# Altium footprint library ICs.PcbLib: 34 footprints (part 1 of 3)
Each footprint in its own frame and in the unit in brackets; x right, y up, seen from the top. Pads: shape width x height; smd on the part's side, far side on the other; paste and mask are expansions set on the pad; w line width, h text height; cw(c..) or ccw(c..) is an arc to the next point about the centre after c.
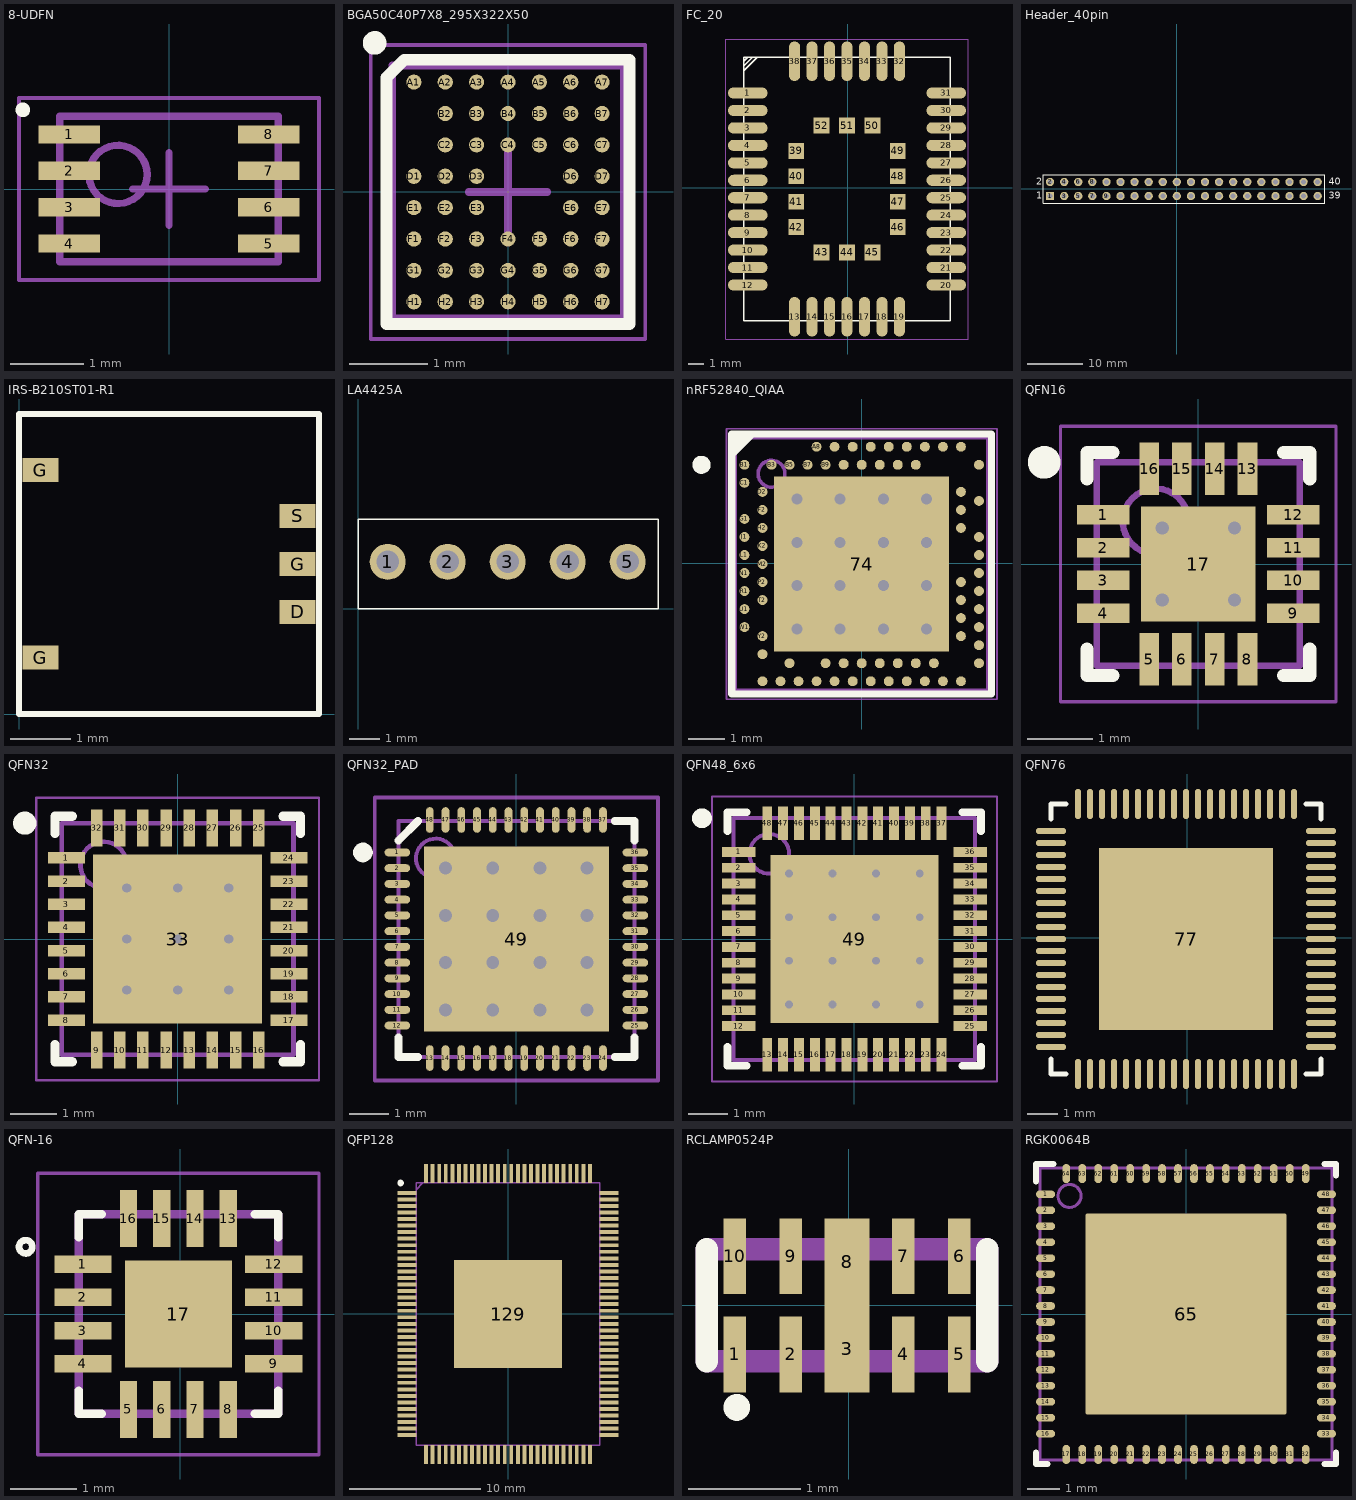
[diagram p0: the footprints below, top view; thin cyan lines are the x and y axes]

## 8-UDFN [mm] "8-UDFN, 8-Leads, Body 1.95x2.95mm, Pitch 0.50mm, IPC Medium Density"
height 0.6
pads (8):
  rect 0.85x0.25 smd: 1(-1.37,0.75) 2(-1.37,0.25) 3(-1.37,-0.25) 4(-1.37,-0.75) 5(1.37,-0.75) 6(1.37,-0.25) 7(1.37,0.25) 8(1.37,0.75)
Top Overlay:
  circle w0.1: c-2.007,1.087 r0.05
Mechanical 13:
  circle w0.1: c-0.7,0.2 r0.4
  lines w0.1: -1.5,-1 -1.5,1 1.5,1 1.5,-1 -1.5,-1
Mechanical 15:
  lines w0.05: -2.06,-1.25 -2.06,1.25 2.06,1.25 2.06,-1.25 -2.06,-1.25
  lines w0.1: -0.5,0 0.5,0 ; 0,-0.5 0,0.5
3D body "8-UDFN.step": height 0.6, standoff 0.1, extent -1.5,-1 1.5,1

## BGA50C40P7X8_295X322X50 [mm]
pads (50):
  round 0.193 smd: A1(-1.2,1.4) A2(-0.8,1.4) A3(-0.4,1.4) A4(0,1.4) A5(0.4,1.4) A6(0.8,1.4) A7(1.2,1.4) B2(-0.8,1) B3(-0.4,1) B4(0,1) B5(0.4,1) B6(0.8,1) B7(1.2,1) C2(-0.8,0.6) C3(-0.4,0.6) C4(0,0.6) C5(0.4,0.6) C6(0.8,0.6) C7(1.2,0.6) D1(-1.2,0.2) D2(-0.8,0.2) D3(-0.4,0.2) D6(0.8,0.2) D7(1.2,0.2) E1(-1.2,-0.2) E2(-0.8,-0.2) E3(-0.4,-0.2) E6(0.8,-0.2) E7(1.2,-0.2) F1(-1.2,-0.6) F2(-0.8,-0.6) F3(-0.4,-0.6) F4(0,-0.6) F5(0.4,-0.6) F6(0.8,-0.6) F7(1.2,-0.6) G1(-1.2,-1) G2(-0.8,-1) G3(-0.4,-1) G4(0,-1) G5(0.4,-1) G6(0.8,-1) G7(1.2,-1) H1(-1.2,-1.4) H2(-0.8,-1.4) H3(-0.4,-1.4) H4(0,-1.4) H5(0.4,-1.4) H6(0.8,-1.4) H7(1.2,-1.4)
Top Overlay:
  circle w0.2: c-1.7,1.9 r0.05
  lines w0.15: -1.55,-1.685 1.55,-1.685 1.55,1.685 -1.323,1.685 -1.55,1.458 -1.55,-1.685
Mechanical 13:
  lines w0.1: -1.475,-1.61 -1.475,1.61 1.475,1.61 1.475,-1.61 -1.475,-1.61
Mechanical 15:
  lines w0.05: -1.75,-1.875 -1.75,1.875 1.75,1.875 1.75,-1.875 -1.75,-1.875
  lines w0.1: -0.5,0 0.5,0 ; 0,-0.5 0,0.5
3D body: height 0.5, standoff 0, extent -1.475,-1.61 1.475,1.61
3D body: height 0.51, standoff 0.5, extent -1.2,1.135 -1,1.335

## FC_20 [mm]
pads (52):
  oval 2.5x0.7 smd: 1(-6.3,5.987) 2(-6.3,4.887) 3(-6.3,3.787) 4(-6.3,2.687) 5(-6.3,1.587) 6(-6.3,0.487) 7(-6.3,-0.613) 8(-6.3,-1.713) 9(-6.3,-2.813) 10(-6.3,-3.913) 11(-6.3,-5.013) 12(-6.3,-6.113) 20(6.2,-6.113) 21(6.2,-5.013) 22(6.2,-3.913) 23(6.2,-2.813) 24(6.2,-1.713) 25(6.2,-0.613) 26(6.2,0.487) 27(6.2,1.587) 28(6.2,2.687) 29(6.2,3.787) 30(6.2,4.887) 31(6.2,5.987)
  oval 0.7x2.5 smd: 13(-3.35,-8.113) 14(-2.25,-8.113) 15(-1.15,-8.113) 16(-0.05,-8.113) 17(1.05,-8.113) 18(2.15,-8.113) 19(3.25,-8.113) 32(3.25,7.987) 33(2.15,7.987) 34(1.05,7.987) 35(-0.05,7.987) 36(-1.15,7.987) 37(-2.25,7.987) 38(-3.35,7.987)
  rect 1x1 smd: 39(-3.25,2.337) 40(-3.25,0.737) 41(-3.25,-0.863) 42(-3.25,-2.463) 43(-1.65,-4.063) 44(-0.05,-4.063) 45(1.55,-4.063) 46(3.15,-2.463) 47(3.15,-0.863) 48(3.15,0.737) 49(3.15,2.337) 50(1.55,3.937) 51(-0.05,3.937) 52(-1.65,3.937)
Top Overlay:
  lines w0.1: -6.55,-8.363 6.45,-8.363 6.45,8.237 -6.55,8.237 -6.55,-8.363
  lines w0.102: -6.55,7.387 -5.7,8.237 ; -6.55,7.687 -6,8.237 ; -6.55,7.987 -6.3,8.237
Mechanical 1:
  lines w0.01: -7.7,-9.513 7.6,-9.513 7.6,9.387 -7.7,9.387 -7.7,-9.513
3D body: height 0.25, standoff 0, extent 0.406,0.076 0.406,0.076
3D body: height 0.25, standoff 0, extent 10.389,4.902 10.389,4.902
3D body "fc20_3d_161018_asm.stp": height 2.2, standoff 0, extent -6.551,-8.325 6.449,8.275

## Header_40pin [mm]
pads (40):
  rect 1.5x1.5 hole 0.9: 1(-22.809,-1.346)
  round 1.5 hole 0.9: 2(-22.809,1.194) 3(-20.269,-1.346) 4(-20.269,1.194) 5(-17.729,-1.346) 6(-17.729,1.194) 7(-15.189,-1.346) 8(-15.189,1.194) 9(-12.649,-1.346) 10(-12.649,1.194) 11(-10.109,-1.346) 12(-10.109,1.194) 13(-7.569,-1.346) 14(-7.569,1.194) 15(-5.029,-1.346) 16(-5.029,1.194) 17(-2.489,-1.346) 18(-2.489,1.194) 19(0.051,-1.346) 20(0.051,1.194) 21(2.591,-1.346) 22(2.591,1.194) 23(5.131,-1.346) 24(5.131,1.194) 25(7.671,-1.346) 26(7.671,1.194) 27(10.211,-1.346) 28(10.211,1.194) 29(12.751,-1.346) 30(12.751,1.194) 31(15.291,-1.346) 32(15.291,1.194) 33(17.831,-1.346) 34(17.831,1.194) 35(20.371,-1.346) 36(20.371,1.194) 37(22.911,-1.346) 38(22.911,1.194) 39(25.451,-1.346) 40(25.451,1.194)
Top Overlay:
  lines w0.2: -24.079,-2.616 26.721,-2.616 26.721,2.464 -24.079,2.464 -24.079,-2.616
  text "1" at -25.349,-1.854 h1.27
  text "2" at -25.349,0.686 h1.27
  text "40" at 27.483,0.686 h1.27
  text "39" at 27.483,-1.854 h1.27

## IRS-B210ST01-R1 [mm]
pads (5):
  rect 0.6x0.4 smd: D(4.644,1.702) G(0.356,0.94) G(0.356,4.064) G(4.644,2.5) S(4.644,3.302)
Top Overlay:
  lines w0.1: 0,0 5,0 5,5 0,5 0,0

## LA4425A [mil]
pads (5):
  round 47.24 hole 30: 1(39,62) 2(117.74,62) 3(196.48,62) 4(275.22,62) 5(353.96,62)
Top Overlay:
  lines w1.97: 0,0 393.7,0 393.7,118.11 0,118.11 0,0

## nRF52840_QIAA [mm]
pads (74):
  rect 4.85x4.85 smd mask+0.05: 74(-0.007,-0.024)
  round 0.275 smd paste+0.012 mask+0.05: A8(-1.257,3.226) A10(-0.757,3.226) A12(-0.257,3.226) A14(0.243,3.226) A16(0.743,3.226) A18(1.243,3.226) A20(1.743,3.226) A22(2.243,3.226) A23(2.743,3.226) AA24(3.243,-2.274) AB2(-2.757,-2.524) AC5(-2.007,-2.774) AC9(-1.007,-2.774) AC11(-0.507,-2.774) AC13(-0.007,-2.774) AC15(0.493,-2.774) AC17(0.993,-2.774) AC19(1.493,-2.774) AC21(1.993,-2.774) AC24(3.243,-2.774) AD2(-2.757,-3.274) AD4(-2.257,-3.274) AD6(-1.757,-3.274) AD8(-1.257,-3.274) AD10(-0.757,-3.274) AD12(-0.257,-3.274) AD14(0.243,-3.274) AD16(0.743,-3.274) AD18(1.243,-3.274) AD20(1.743,-3.274) AD22(2.243,-3.274) AD23(2.743,-3.274) B1(-3.257,2.726) B3(-2.507,2.726) B5(-2.007,2.726) B7(-1.507,2.726) B9(-1.007,2.726) B11(-0.507,2.726) B13(-0.007,2.726) B15(0.493,2.726) B17(0.993,2.726) B19(1.493,2.726) B24(3.243,2.726) C1(-3.257,2.226) D2(-2.757,1.976) D23(2.743,1.976) E24(3.243,1.726) F2(-2.757,1.476) F23(2.743,1.476) G1(-3.257,1.226) H2(-2.757,0.976) H23(2.743,0.976) J1(-3.257,0.726) J24(3.243,0.726) K2(-2.757,0.476) L1(-3.257,0.226) L24(3.243,0.226) M2(-2.757,-0.024) N1(-3.257,-0.274) N24(3.243,-0.274) P2(-2.757,-0.524) P23(2.743,-0.524) R1(-3.257,-0.774) R24(3.243,-0.774) T2(-2.757,-1.024) T23(2.743,-1.024) U1(-3.257,-1.274) U24(3.243,-1.274) V23(2.743,-1.524) W1(-3.257,-1.774) W24(3.243,-1.774) Y2(-2.757,-2.024) Y23(2.743,-2.024)
via 1.793,-1.824 diameter 0.61 hole 0.305
via 0.593,-1.824 diameter 0.61 hole 0.305
via -0.607,-1.824 diameter 0.61 hole 0.305
via -1.807,-1.824 diameter 0.61 hole 0.305
via 1.793,-0.624 diameter 0.61 hole 0.305
via 0.593,-0.624 diameter 0.61 hole 0.305
via -0.607,-0.624 diameter 0.61 hole 0.305
via -1.807,-0.624 diameter 0.61 hole 0.305
via 1.793,0.576 diameter 0.61 hole 0.305
via 0.593,0.576 diameter 0.61 hole 0.305
via -0.607,0.576 diameter 0.61 hole 0.305
via -1.807,0.576 diameter 0.61 hole 0.305
via 1.793,1.776 diameter 0.61 hole 0.305
via 0.593,1.776 diameter 0.61 hole 0.305
via -0.607,1.776 diameter 0.61 hole 0.305
via -1.807,1.776 diameter 0.61 hole 0.305
Top Overlay:
  circle w0.25: c-4.447,2.726 r0.125
  region: -3.007,3.476 -3.507,2.976 -3.507,3.476
  lines w0.2: -3.607,-3.624 3.593,-3.624 3.593,3.576 -3.607,3.576 -3.607,-3.624
Mechanical 7:
  circle w0.1: c-2.507,2.476 r0.373
  lines w0.1: -3.507,-3.524 -3.507,3.476 3.493,3.476 3.493,-3.524 -3.507,-3.524
  text ".Designator" at -0.185,-0.177 h0.3
Mechanical 15:
  lines w0.05: -3.757,-3.774 3.743,-3.774 3.743,3.726 -3.757,3.726 -3.757,-3.774
  lines w0.1: -0.507,-0.024 0.493,-0.024 ; -0.007,-0.524 -0.007,0.476
3D body "LGA88C25P25X25_700X700X85.step": height 0.85, standoff 0, extent -3.557,-3.574 3.543,3.526

## QFN16 [mm]
height 0.75
pads (17):
  rect 0.8x0.3 smd: 1(-1.45,0.75) 2(-1.45,0.25) 3(-1.45,-0.25) 4(-1.45,-0.75) 9(1.45,-0.75) 10(1.45,-0.25) 11(1.45,0.25) 12(1.45,0.75)
  rect 0.3x0.8 smd: 5(-0.75,-1.45) 6(-0.25,-1.45) 7(0.25,-1.45) 8(0.75,-1.45) 13(0.75,1.45) 14(0.25,1.45) 15(-0.25,1.45) 16(-0.75,1.45)
  rect 1.75x1.75 smd: 17(0,0)
via 0.55,-0.55 diameter 0.5 hole 0.2
via -0.55,-0.55 diameter 0.5 hole 0.2
via 0.55,0.55 diameter 0.5 hole 0.2
via -0.55,0.55 diameter 0.5 hole 0.2
Top Overlay:
  circle w0.25: c-2.35,1.55 r0.125
  lines w0.2: -1.7,-1.3 -1.7,-1.7 -1.3,-1.7 ; -1.7,1.3 -1.7,1.7 -1.3,1.7 ; 1.3,-1.7 1.7,-1.7 1.7,-1.3 ; 1.3,1.7 1.7,1.7 1.7,1.3
Mechanical 13:
  circle w0.1: c-0.65,0.65 r0.5
  lines w0.1: -1.55,-1.55 1.55,-1.55 1.55,1.55 -1.55,1.55 -1.55,-1.55
Mechanical 15:
  lines w0.05: -2.1,-2.1 2.1,-2.1 2.1,2.1 -2.1,2.1 -2.1,-2.1
  lines w0.1: -0.5,0 0.5,0 ; 0,-0.5 0,0.5
3D body "QFN16.step": height 0.75, standoff 0, extent -1.56,-1.56 1.56,1.56

## QFN32 [mm]
height 0.75
pads (33):
  rect 0.8x0.25 smd: 1(-2.4,1.75) 2(-2.4,1.25) 3(-2.4,0.75) 4(-2.4,0.25) 5(-2.4,-0.25) 6(-2.4,-0.75) 7(-2.4,-1.25) 8(-2.4,-1.75) 17(2.4,-1.75) 18(2.4,-1.25) 19(2.4,-0.75) 20(2.4,-0.25) 21(2.4,0.25) 22(2.4,0.75) 23(2.4,1.25) 24(2.4,1.75)
  rect 0.25x0.8 smd: 9(-1.75,-2.4) 10(-1.25,-2.4) 11(-0.75,-2.4) 12(-0.25,-2.4) 13(0.25,-2.4) 14(0.75,-2.4) 15(1.25,-2.4) 16(1.75,-2.4) 25(1.75,2.4) 26(1.25,2.4) 27(0.75,2.4) 28(0.25,2.4) 29(-0.25,2.4) 30(-0.75,2.4) 31(-1.25,2.4) 32(-1.75,2.4)
  rect 3.65x3.65 smd: 33(0,0)
via -1.1,1.1 diameter 0.5 hole 0.2
via 0,1.1 diameter 0.5 hole 0.2
via 1.1,1.1 diameter 0.5 hole 0.2
via -1.1,0 diameter 0.5 hole 0.2
via 0,0 diameter 0.5 hole 0.2
via 1.1,0 diameter 0.5 hole 0.2
via -1.1,-1.1 diameter 0.5 hole 0.2
via 0,-1.1 diameter 0.5 hole 0.2
via 1.1,-1.1 diameter 0.5 hole 0.2
Top Overlay:
  circle w0.25: c-3.3,2.5 r0.125
  lines w0.2: -2.65,-2.275 -2.65,-2.65 -2.275,-2.65 ; -2.65,2.275 -2.65,2.65 -2.275,2.65 ; 2.275,-2.65 2.65,-2.65 2.65,-2.275 ; 2.275,2.65 2.65,2.65 2.65,2.275
Mechanical 13:
  circle w0.1: c-1.6,1.6 r0.5
  lines w0.1: -2.5,-2.5 -2.5,2.5 2.5,2.5 2.5,-2.5 -2.5,-2.5
Mechanical 15:
  lines w0.05: -3.05,-3.05 -3.05,3.05 3.05,3.05 3.05,-3.05 -3.05,-3.05
  lines w0.1: -0.5,0 0.5,0 ; 0,-0.5 0,0.5
3D body "QFN32.step": height 0.75, standoff 0, extent -2.51,-2.51 2.51,2.51

## QFN32_PAD [mm]
pads (49):
  oval 0.65x0.2 smd: 1(-3.025,2.2) 2(-3.025,1.8) 3(-3.025,1.4) 4(-3.025,1) 5(-3.025,0.6) 6(-3.025,0.2) 7(-3.025,-0.2) 8(-3.025,-0.6) 9(-3.025,-1) 10(-3.025,-1.4) 11(-3.025,-1.8) 12(-3.025,-2.2) 25(3.025,-2.2) 26(3.025,-1.8) 27(3.025,-1.4) 28(3.025,-1) 29(3.025,-0.6) 30(3.025,-0.2) 31(3.025,0.2) 32(3.025,0.6) 33(3.025,1) 34(3.025,1.4) 35(3.025,1.8) 36(3.025,2.2)
  oval 0.2x0.65 smd: 13(-2.2,-3.025) 14(-1.8,-3.025) 15(-1.4,-3.025) 16(-1,-3.025) 17(-0.6,-3.025) 18(-0.2,-3.025) 19(0.2,-3.025) 20(0.6,-3.025) 21(1,-3.025) 22(1.4,-3.025) 23(1.8,-3.025) 24(2.2,-3.025) 37(2.2,3.025) 38(1.8,3.025) 39(1.4,3.025) 40(1,3.025) 41(0.6,3.025) 42(0.2,3.025) 43(-0.2,3.025) 44(-0.6,3.025) 45(-1,3.025) 46(-1.4,3.025) 47(-1.8,3.025) 48(-2.2,3.025)
  rect 4.7x4.7 smd: 49(0,0)
via 1.8,-1.8 diameter 0.66 hole 0.33
via 0.6,-1.8 diameter 0.66 hole 0.33
via -0.6,-1.8 diameter 0.66 hole 0.33
via -1.8,-1.8 diameter 0.66 hole 0.33
via 1.8,-0.6 diameter 0.66 hole 0.33
via 0.6,-0.6 diameter 0.66 hole 0.33
via -0.6,-0.6 diameter 0.66 hole 0.33
via -1.8,-0.6 diameter 0.66 hole 0.33
via 1.8,0.6 diameter 0.66 hole 0.33
via 0.6,0.6 diameter 0.66 hole 0.33
via -0.6,0.6 diameter 0.66 hole 0.33
via -1.8,0.6 diameter 0.66 hole 0.33
via 1.8,1.8 diameter 0.66 hole 0.33
via 0.6,1.8 diameter 0.66 hole 0.33
via -0.6,1.8 diameter 0.66 hole 0.33
via -1.8,1.8 diameter 0.66 hole 0.33
Top Overlay:
  circle w0.25: c-3.9,2.2 r0.125
  lines w0.2: -3,-2.5 -3,-3 -2.5,-3 ; -3,2.5 -2.5,3 ; 2.5,-3 3,-3 3,-2.5 ; 2.5,3 3,3 3,2.5
Mechanical 13:
  circle w0.1: c-2.05,2.05 r0.5
  lines w0.1: -3,-3 3,-3 3,3 -3,3 -3,-3
Mechanical 15:
  lines w0.1: -0.5,0 0.5,0 ; 0,-0.5 0,0.5 ; -3.6,-3.6 3.6,-3.6 3.6,3.6 -3.6,3.6 -3.6,-3.6
3D body "User Library-QFN48.step": height 0.86, standoff -0.01, extent -3.02,-3.02 3.02,3.02

## QFN48_6x6 [mm] "QFN, 48-Leads, Body 6.05x6.05mm, Pitch 0.40mm, Thermal Pad 4.25x4.25mm, IPC Medium Density"
height 0.8
pads (49):
  rect 0.85x0.25 smd: 1(-2.925,2.2) 2(-2.925,1.8) 3(-2.925,1.4) 4(-2.925,1) 5(-2.925,0.6) 6(-2.925,0.2) 7(-2.925,-0.2) 8(-2.925,-0.6) 9(-2.925,-1) 10(-2.925,-1.4) 11(-2.925,-1.8) 12(-2.925,-2.2) 25(2.925,-2.2) 26(2.925,-1.8) 27(2.925,-1.4) 28(2.925,-1) 29(2.925,-0.6) 30(2.925,-0.2) 31(2.925,0.2) 32(2.925,0.6) 33(2.925,1) 34(2.925,1.4) 35(2.925,1.8) 36(2.925,2.2)
  rect 0.25x0.85 smd: 13(-2.2,-2.925) 14(-1.8,-2.925) 15(-1.4,-2.925) 16(-1,-2.925) 17(-0.6,-2.925) 18(-0.2,-2.925) 19(0.2,-2.925) 20(0.6,-2.925) 21(1,-2.925) 22(1.4,-2.925) 23(1.8,-2.925) 24(2.2,-2.925) 37(2.2,2.925) 38(1.8,2.925) 39(1.4,2.925) 40(1,2.925) 41(0.6,2.925) 42(0.2,2.925) 43(-0.2,2.925) 44(-0.6,2.925) 45(-1,2.925) 46(-1.4,2.925) 47(-1.8,2.925) 48(-2.2,2.925)
  rect 4.25x4.25 smd: 49(0,0)
via -1.65,1.65 diameter 0.5 hole 0.2
via -0.55,1.65 diameter 0.5 hole 0.2
via 0.55,1.65 diameter 0.5 hole 0.2
via 1.65,1.65 diameter 0.5 hole 0.2
via -1.65,0.55 diameter 0.5 hole 0.2
via -0.55,0.55 diameter 0.5 hole 0.2
via 0.55,0.55 diameter 0.5 hole 0.2
via 1.65,0.55 diameter 0.5 hole 0.2
via -1.65,-0.55 diameter 0.5 hole 0.2
via -0.55,-0.55 diameter 0.5 hole 0.2
via 0.55,-0.55 diameter 0.5 hole 0.2
via 1.65,-0.55 diameter 0.5 hole 0.2
via -1.65,-1.65 diameter 0.5 hole 0.2
via -0.55,-1.65 diameter 0.5 hole 0.2
via 0.55,-1.65 diameter 0.5 hole 0.2
via 1.65,-1.65 diameter 0.5 hole 0.2
Top Overlay:
  circle w0.25: c-3.85,3.05 r0.125
  lines w0.2: -3.2,-2.725 -3.2,-3.2 -2.725,-3.2 ; -3.2,2.725 -3.2,3.2 -2.725,3.2 ; 2.725,-3.2 3.2,-3.2 3.2,-2.725 ; 2.725,3.2 3.2,3.2 3.2,2.725
Mechanical 13:
  circle w0.1: c-2.15,2.15 r0.5
  lines w0.1: -3.05,-3.05 -3.05,3.05 3.05,3.05 3.05,-3.05 -3.05,-3.05
Mechanical 15:
  lines w0.05: -3.6,-3.6 -3.6,3.6 3.6,3.6 3.6,-3.6 -3.6,-3.6
  lines w0.1: -0.5,0 0.5,0 ; 0,-0.5 0,0.5
3D body "QFN48_6x6.step": height 0.8, standoff 0, extent -3.06,-3.06 3.06,3.06

## QFN76 [mm]
pads (77):
  oval 1x0.2 smd: 1(-4.535,3.558) 2(-4.535,3.158) 3(-4.535,2.758) 4(-4.535,2.358) 5(-4.535,1.958) 6(-4.535,1.558) 7(-4.535,1.158) 8(-4.535,0.758) 9(-4.535,0.358) 10(-4.535,-0.042) 11(-4.535,-0.442) 12(-4.535,-0.842) 13(-4.535,-1.242) 14(-4.535,-1.642) 15(-4.535,-2.042) 16(-4.535,-2.442) 17(-4.535,-2.842) 18(-4.535,-3.242) 19(-4.535,-3.642) 39(4.465,-3.642) 40(4.465,-3.242) 41(4.465,-2.842) 42(4.465,-2.442) 43(4.465,-2.042) 44(4.465,-1.642) 45(4.465,-1.242) 46(4.465,-0.842) 47(4.465,-0.442) 48(4.465,-0.042) 49(4.465,0.358) 50(4.465,0.758) 51(4.465,1.158) 52(4.465,1.558) 53(4.465,1.958) 54(4.465,2.358) 55(4.465,2.758) 56(4.465,3.158) 57(4.465,3.558)
  oval 0.2x1 smd: 20(-3.635,-4.542) 21(-3.235,-4.542) 22(-2.835,-4.542) 23(-2.435,-4.542) 24(-2.035,-4.542) 25(-1.635,-4.542) 26(-1.235,-4.542) 27(-0.835,-4.542) 28(-0.435,-4.542) 29(-0.035,-4.542) 30(0.365,-4.542) 31(0.765,-4.542) 32(1.165,-4.542) 33(1.565,-4.542) 34(1.965,-4.542) 35(2.365,-4.542) 36(2.765,-4.542) 37(3.165,-4.542) 38(3.565,-4.542) 58(3.565,4.458) 59(3.165,4.458) 60(2.765,4.458) 61(2.365,4.458) 62(1.965,4.458) 63(1.565,4.458) 64(1.165,4.458) 65(0.765,4.458) 66(0.365,4.458) 67(-0.035,4.458) 68(-0.435,4.458) 69(-0.835,4.458) 70(-1.235,4.458) 71(-1.635,4.458) 72(-2.035,4.458) 73(-2.435,4.458) 74(-2.835,4.458) 75(-3.235,4.458) 76(-3.635,4.458)
  rect 5.81x6.06 smd: 77(-0.035,-0.042)
Top Overlay:
  lines w0.15: -4.535,-4.042 -4.535,-4.542 -4.035,-4.542 ; -4.535,3.958 -4.535,4.458 -4.035,4.458 ; 3.965,-4.542 4.465,-4.542 4.465,-4.042 ; 3.965,4.458 4.465,4.458 4.465,3.958

## QFN-16 [mm]
pads (17):
  rect 0.86x0.26 smd: 1(-1.46,0.75) 2(-1.46,0.25) 3(-1.46,-0.25) 4(-1.46,-0.75) 9(1.41,-0.75) 10(1.41,-0.25) 11(1.41,0.25) 12(1.41,0.75)
  rect 0.26x0.86 smd: 5(-0.775,-1.435) 6(-0.275,-1.435) 7(0.225,-1.435) 8(0.725,-1.435) 13(0.725,1.435) 14(0.225,1.435) 15(-0.275,1.435) 16(-0.775,1.435)
  rect 1.61x1.61 smd: 17(-0.025,0)
Top Overlay:
  circle w0.1: c-2.32,1.01 r0.1
  lines w0.127: -1.525,-1.15 -1.525,-1.5 -1.175,-1.5 ; -1.525,1.15 -1.525,1.5 -1.175,1.5 ; 1.125,-1.5 1.475,-1.5 1.475,-1.15 ; 1.125,1.5 1.475,1.5 1.475,1.15
Top Paste:
  region: -0.434,0.403 0.378,0.403 0.378,-0.409 -0.434,-0.409
Mechanical 1:
  lines w0.05: -2.14,-2.115 2.09,-2.115 2.09,2.115 -2.14,2.115 -2.14,-2.115
  lines w0.127: -1.525,-1.5 1.475,-1.5 1.475,1.5 -1.525,1.5 -1.525,-1.5

## QFP128 [mm]
pads (129):
  rect 1.45x0.3 smd: 1(-7.75,9.225) 2(-7.75,8.725) 3(-7.75,8.225) 4(-7.75,7.725) 5(-7.75,7.225) 6(-7.75,6.725) 7(-7.75,6.225) 8(-7.75,5.725) 9(-7.75,5.225) 10(-7.75,4.725) 11(-7.75,4.225) 12(-7.75,3.725) 13(-7.75,3.225) 14(-7.75,2.725) 15(-7.75,2.225) 16(-7.75,1.725) 17(-7.75,1.225) 18(-7.75,0.725) 19(-7.75,0.225) 20(-7.75,-0.275) 21(-7.75,-0.775) 22(-7.75,-1.275) 23(-7.75,-1.775) 24(-7.75,-2.275) 25(-7.75,-2.775) 26(-7.75,-3.275) 27(-7.75,-3.775) 28(-7.75,-4.275) 29(-7.75,-4.775) 30(-7.75,-5.275) 31(-7.75,-5.775) 32(-7.75,-6.275) 33(-7.75,-6.775) 34(-7.75,-7.275) 35(-7.75,-7.775) 36(-7.75,-8.275) 37(-7.75,-8.775) 38(-7.75,-9.275) 65(7.7,-9.275) 66(7.7,-8.775) 67(7.7,-8.275) 68(7.7,-7.775) 69(7.7,-7.275) 70(7.7,-6.775) 71(7.7,-6.275) 72(7.7,-5.775) 73(7.7,-5.275) 74(7.7,-4.775) 75(7.7,-4.275) 76(7.7,-3.775) 77(7.7,-3.275) 78(7.7,-2.775) 79(7.7,-2.275) 80(7.7,-1.775) 81(7.7,-1.275) 82(7.7,-0.775) 83(7.7,-0.275) 84(7.7,0.225) 85(7.7,0.725) 86(7.7,1.225) 87(7.7,1.725) 88(7.7,2.225) 89(7.7,2.725) 90(7.7,3.225) 91(7.7,3.725) 92(7.7,4.225) 93(7.7,4.725) 94(7.7,5.225) 95(7.7,5.725) 96(7.7,6.225) 97(7.7,6.725) 98(7.7,7.225) 99(7.7,7.725) 100(7.7,8.225) 101(7.7,8.725) 102(7.7,9.225)
  rect 0.3x1.45 smd: 39(-6.275,-10.75) 40(-5.775,-10.75) 41(-5.275,-10.75) 42(-4.775,-10.75) 43(-4.275,-10.75) 44(-3.775,-10.75) 45(-3.275,-10.75) 46(-2.775,-10.75) 47(-2.275,-10.75) 48(-1.775,-10.75) 49(-1.275,-10.75) 50(-0.775,-10.75) 51(-0.275,-10.75) 52(0.225,-10.75) 53(0.725,-10.75) 54(1.225,-10.75) 55(1.725,-10.75) 56(2.225,-10.75) 57(2.725,-10.75) 58(3.225,-10.75) 59(3.725,-10.75) 60(4.225,-10.75) 61(4.725,-10.75) 62(5.225,-10.75) 63(5.725,-10.75) 64(6.225,-10.75) 103(6.225,10.7) 104(5.725,10.7) 105(5.225,10.7) 106(4.725,10.7) 107(4.225,10.7) 108(3.725,10.7) 109(3.225,10.7) 110(2.725,10.7) 111(2.225,10.7) 112(1.725,10.7) 113(1.225,10.7) 114(0.725,10.7) 115(0.225,10.7) 116(-0.275,10.7) 117(-0.775,10.7) 118(-1.275,10.7) 119(-1.775,10.7) 120(-2.275,10.7) 121(-2.775,10.7) 122(-3.275,10.7) 123(-3.775,10.7) 124(-4.275,10.7) 125(-4.775,10.7) 126(-5.275,10.7) 127(-5.775,10.7) 128(-6.275,10.7)
  rrect0% 8.26x8.26 smd: 129(-0.025,-0.025)
Top Overlay:
  circle w0.25: c-8.225,9.975 r0.125
Mechanical 15:
  lines w0.1: -7.025,9.475 -6.525,9.975 ; -7.025,-10.025 6.975,-10.025 6.975,9.975 -7.025,9.975 -7.025,-10.025

## RCLAMP0524P [mm]
pads (10):
  rect 0.2x0.675 smd: 1(-1.017,-0.437) 2(-0.517,-0.437) 4(0.483,-0.437) 5(0.983,-0.437) 6(0.983,0.437) 7(0.483,0.437) 9(-0.517,0.437) 10(-1.017,0.437)
  rect 0.4x0.775 smd: 3(-0.017,-0.387) 8(-0.017,0.387)
Top Overlay:
  circle w0.2: c-1,-0.91 r0.019
  lines w0.2: -1.267,-0.5 -1.267,0.5 ; 1.233,-0.5 1.233,0.5
Mechanical 15:
  lines w0.2: -1.267,-0.5 -1.267,0.5 1.233,0.5 1.233,-0.5 -1.267,-0.5

## RGK0064B [mm]
pads (65):
  rrect100% 0.6x0.24 smd: 1(-4.4,3.75) 2(-4.4,3.25) 3(-4.4,2.75) 4(-4.4,2.25) 5(-4.4,1.75) 6(-4.4,1.25) 7(-4.4,0.75) 8(-4.4,0.25) 9(-4.4,-0.25) 10(-4.4,-0.75) 11(-4.4,-1.25) 12(-4.4,-1.75) 13(-4.4,-2.25) 14(-4.4,-2.75) 15(-4.4,-3.25) 16(-4.4,-3.75) 33(4.4,-3.75) 34(4.4,-3.25) 35(4.4,-2.75) 36(4.4,-2.25) 37(4.4,-1.75) 38(4.4,-1.25) 39(4.4,-0.75) 40(4.4,-0.25) 41(4.4,0.25) 42(4.4,0.75) 43(4.4,1.25) 44(4.4,1.75) 45(4.4,2.25) 46(4.4,2.75) 47(4.4,3.25) 48(4.4,3.75)
  rrect100% 0.24x0.6 smd: 17(-3.75,-4.4) 18(-3.25,-4.4) 19(-2.75,-4.4) 20(-2.25,-4.4) 21(-1.75,-4.4) 22(-1.25,-4.4) 23(-0.75,-4.4) 24(-0.25,-4.4) 25(0.25,-4.4) 26(0.75,-4.4) 27(1.25,-4.4) 28(1.75,-4.4) 29(2.25,-4.4) 30(2.75,-4.4) 31(3.25,-4.4) 32(3.75,-4.4) 49(3.75,4.4) 50(3.25,4.4) 51(2.75,4.4) 52(2.25,4.4) 53(1.75,4.4) 54(1.25,4.4) 55(0.75,4.4) 56(0.25,4.4) 57(-0.25,4.4) 58(-0.75,4.4) 59(-1.25,4.4) 60(-1.75,4.4) 61(-2.25,4.4) 62(-2.75,4.4) 63(-3.25,4.4) 64(-3.75,4.4)
  rrect2% 6.3x6.3 smd paste-4: 65(0,0)
Top Overlay:
  lines w0.2: -4.7,-4.35 -4.7,-4.7 -4.35,-4.7 ; -4.7,4.15 -4.7,4.7 -4.15,4.7 ; 4.35,-4.7 4.7,-4.7 4.7,-4.35 ; 4.35,4.7 4.7,4.7 4.7,4.35
Top Paste:
  rectangle: 0.7,1.899 1.699,2.897
  rectangle: 1.899,1.899 2.897,2.897
  rectangle: 1.889,0.7 2.887,1.699
  rectangle: 1.899,-0.499 2.897,0.5
  rectangle: 0.7,0.7 1.699,1.699
  rectangle: -0.499,1.899 0.5,2.897
  rectangle: -0.499,0.7 0.5,1.699
  rectangle: 1.899,-1.699 2.897,-0.7
  rectangle: 0.7,-0.499 1.699,0.5
  rectangle: 1.899,-2.897 2.897,-1.899
  rectangle: 0.7,-1.699 1.699,-0.7
  rectangle: 0.7,-2.897 1.699,-1.899
  rectangle: -0.5,-0.5 0.5,0.5
  rectangle: -0.5,-2.897 0.499,-1.899
  rectangle: -1.699,1.899 -0.7,2.897
  rectangle: -2.897,1.899 -1.899,2.897
  rectangle: -1.699,-0.499 -0.7,0.5
  rectangle: -1.699,0.7 -0.7,1.699
  rectangle: -2.897,0.7 -1.899,1.699
  rectangle: -2.897,-0.499 -1.899,0.5
  rectangle: -0.5,-1.699 0.499,-0.7
  rectangle: -1.699,-2.897 -0.7,-1.899
  rectangle: -1.699,-1.699 -0.7,-0.7
  rectangle: -2.897,-1.699 -1.899,-0.7
  rectangle: -2.897,-2.897 -1.899,-1.899
Mechanical 5:
  circle w0.1: c-3.65,3.7 r0.361
  lines w0.1: -4.575,-4.575 4.575,-4.575 4.575,4.575 -4.575,4.575 -4.575,-4.575
  text ".Designator" at -1.295,-0.66 h1.02
3D body: height 1.02, standoff 0.5, extent -4.01,3.34 -3.29,4.06
3D body: height 1, standoff 0, extent -4.574,-4.574 4.574,4.574